# EAGLE library part QN9021 (library alex_mo1)
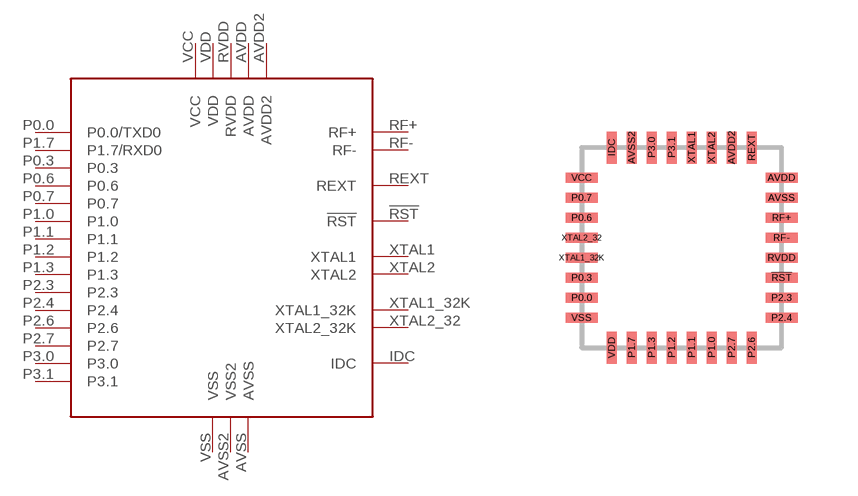
[diagram p1: symbol with the pads of QFN-32; footprint QFN-32]

Designator prefix -

## QN9021  [QFN-32]
!RST  !RST
AVDD  AVDD
AVDD2  AVDD2
AVSS  AVSS
AVSS2  VSS2
IDC  IDC
P0.0  P0.0/TXD0
P0.3  P0.3
P0.6  P0.6
P0.7  P0.7
P1.0  P1.0
P1.1  P1.1
P1.2  P1.2
P1.3  P1.3
P1.7  P1.7/RXD0
P2.3  P2.3
P2.4  P2.4
P2.6  P2.6
P2.7  P2.7
P3.0  P3.0
P3.1  P3.1
REXT  REXT
RF+  RF+
RF-  RF-
RVDD  RVDD
VCC  VCC
VDD  VDD
VSS  VSS
XTAL1  XTAL1
XTAL1_32K  XTAL1_32K
XTAL2  XTAL2
XTAL2_32  XTAL2_32K

## Footprint QFN-32 (pad centres in mm)
smd 0.8 x 0.25: !RST 5,1.75; AVDD 5,4.25; AVSS 5,3.75; P0.0 0,1.25; P0.3 0,1.75; P0.6 0,3.25; P0.7 0,3.75; P2.3 5,1.25; P2.4 5,0.75; RF+ 5,3.25; RF- 5,2.75; RVDD 5,2.25; VCC 0,4.25; VSS 0,0.75; XTAL1_32K 0,2.25; XTAL2_32 0,2.75
smd 0.25 x 0.8: AVDD2 3.75,5; AVSS2 1.25,5; IDC 0.75,5; P1.0 3.25,0; P1.1 2.75,0; P1.2 2.25,0; P1.3 1.75,0; P1.7 1.25,0; P2.6 4.25,0; P2.7 3.75,0; P3.0 1.75,5; P3.1 2.25,5; REXT 4.25,5; VDD 0.75,0; XTAL1 2.75,5; XTAL2 3.25,5